# Altium schematic symbol library ESP32.SchLib: 1 symbol
Pins are listed as number, name and electrical type; pins without a type are passive.

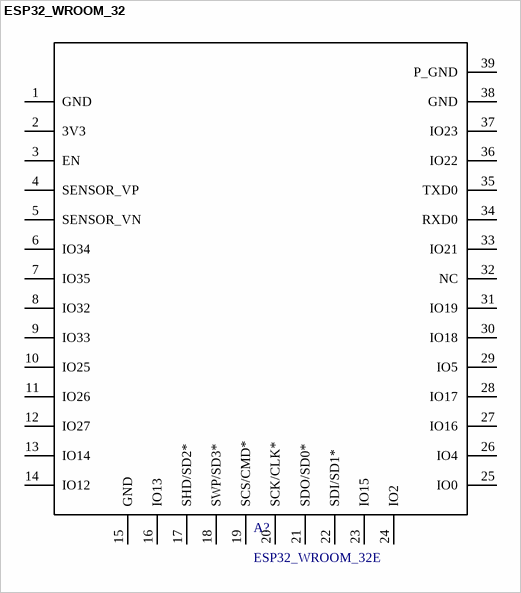
[diagram p0: symbol ESP32_WROOM_32]

## ESP32_WROOM_32
designator A?, comment ESP32_WROOM_32E
footprint ESP32-WROOM­32
footprint ESP32-WROOM­32 ver2
pins: 1 GND, 2 3V3, 3 EN, 4 SENSOR_VP, 5 SENSOR_VN, 6 IO34, 7 IO35, 8 IO32, 9 IO33, 10 IO25, 11 IO26, 12 IO27, 13 IO14, 14 IO12, 15 GND, 16 IO13, 17 SHD/SD2*, 18 SWP/SD3*, 19 SCS/CMD*, 20 SCK/CLK*, 21 SDO/SD0*, 22 SDI/SD1*, 23 IO15, 24 IO2, 25 IO0, 26 IO4, 27 IO16, 28 IO17, 29 IO5, 30 IO18, 31 IO19, 32 NC, 33 IO21, 34 RXD0, 35 TXD0, 36 IO22, 37 IO23, 38 GND, 39 P_GND